# EAGLE library part MAGI³C-VDMM_171010550 (library Eagle_MAGIC-VDMM (rev22a))
MagI³C-VDMM Variable Step Down MicroModule Characteristics Low conducted and radiated EMI (compliant to EN55022 class B / CISPR-22 LGA-6EP Very low profile Micro-package Ideal for space constrained applications Small CIN and COUT integrated 3 solder cycles supported Applications Point-of-Load DC/DC applications from 5 V or 3.3 V rail Replacement for linear regulators Interface and microcontroller supply DSP and FPGA power supply auxiliary voltages Portable instruments Battery powered equipment <https://www.we-online.com/catalog/media/o109063v209%20Family_VDMM.jpg> Details see: www.we-online.com/catalog/MAGIC-VDMM <www.we-online.com/catalog/MAGIC-VDMM/?utm_source=eagle_model&utm_medium=description_link&utm_campaign=eisos_eagle> Updated By Ella Wu 2019-09-18 2019 (C) Wurth Elektronik
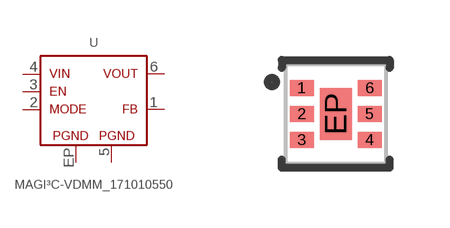
[diagram p3: symbol with the pads of MAGI³C-VDMM_171010550; footprint MAGI³C-VDMM_171010550]

Designator prefix U

## MAGI³C-VDMM_171010550 (DATASHEET-URL: https://www.we-online.com/redexpert/spec171010550?ae; I-OUTPUT: 1.2A; MOUNT: SMT; PART-NUMBER: 171010550; V-INPUT: 2.5-5.5V; V-OUTPUT: 0.8-5.5V; VALUE: 171010550)  [MAGI³C-VDMM_171010550]
1  FB  pas
2  MODE  pas
3  EN  pas
4  VIN  pas
5  PGND  pas
6  VOUT  pas
EP  PGND1  pas

## Footprint MAGI³C-VDMM_171010550 (pad centres in mm)
MagI³C-VDMM Variable Step Down MicroModule
smd 0.6 x 0.4: 1 -0.85,0.65; 2 -0.85,0; 3 -0.85,-0.65; 4 0.85,-0.65; 5 0.85,0; 6 0.85,0.65
smd 0.8 x 1.3: EP 0,0